# EAGLE library part AOZ1284 (library AOZ1284)
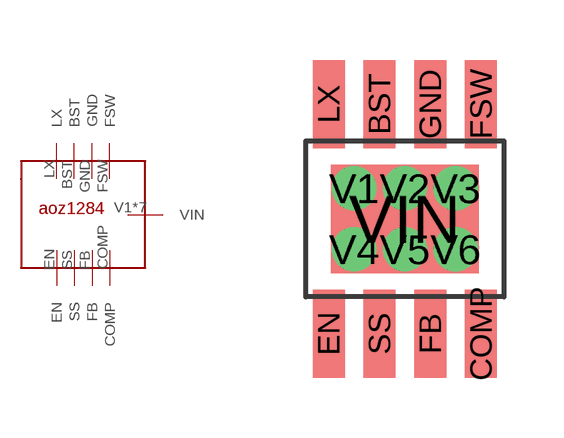
[diagram p0: symbol with the pads of SO-8_EP1; footprint SO-8_EP1]

Designator prefix -

## AOZ1284  [SO-8_EP1]
BST  BST
COMP  COMP
EN  EN
FB  FB
FSW  FSW
GND  GND
LX  LX
SS  SS
V1  VIN
V2  VIN
V3  VIN
V4  VIN
V5  VIN
V6  VIN
VIN  VIN

## Footprint SO-8_EP1 (pad centres in mm)
smd 0.8 x 2.2: BST -0.635,2.87; COMP 1.905,-2.87; EN -1.905,-2.87; FB 0.635,-2.87; FSW 1.905,2.87; GND 0.635,2.87; LX -1.905,2.87; SS -0.635,-2.87
drill 0.6: V1 -1.27,0.762; V2 0,0.762; V3 1.27,0.762; V4 -1.27,-0.762; V5 0,-0.762; V6 1.27,-0.762
smd 3.7 x 2.71: VIN 0,0